# Altium schematic symbol library ResistorCapacitorInductor.SchLib: 15 symbols
Pins are listed as number, name and electrical type; pins without a type are passive.

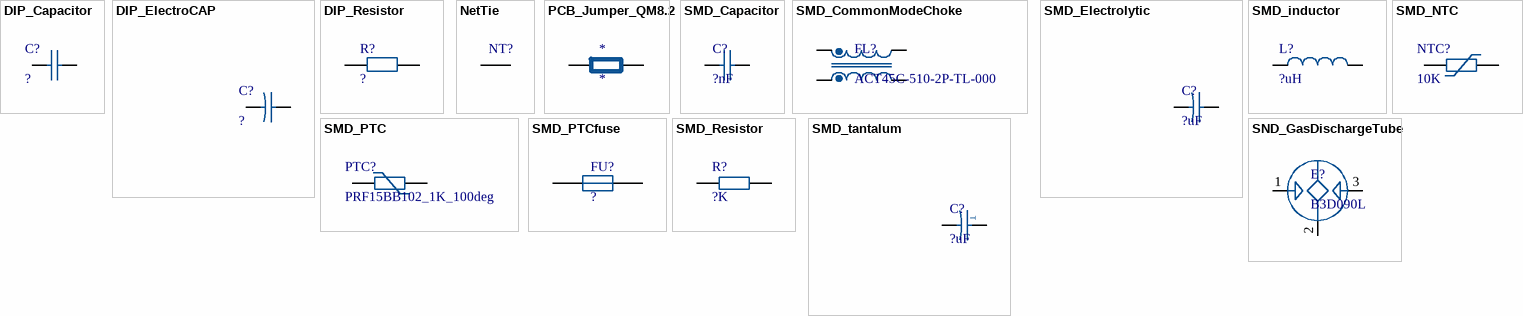
[diagram p0: symbols DIP_Capacitor to SND_GasDischargeTube]

## DIP_Capacitor
designator C?, comment ?
Type: ?
footprint RAD-0.2 (Radial Cap, Thru-Hole; 2 Leads; 0.2 in Pin Spacing)
pins: 1, 2

## DIP_ElectroCAP
designator C?, comment ?
Type: ?
footprint RAD-0.1 (Radial Cap, Thru-Hole; 2 Leads; 0.1 in Pin Spacing)
pins: 1, 2

## DIP_Resistor
designator R?, comment ?
Type: ?
footprint AXIAL-0.3 (Axial Device, Thru-Hole; 2 Leads; 0.3 in Pin Spacing)
footprint AXIAL-0.4 (Axial Device, Thru-Hole; 2 Leads; 0.4 in Pin Spacing)
footprint AXIAL-0.5 (Axial Device, Thru-Hole; 2 Leads; 0.5 in Pin Spacing)
footprint AXIAL-0.6 (Axial Device, Thru-Hole; 2 Leads; 0.6 in Pin Spacing)
pins: 1, 2

## NetTie
designator NT?  (net tie, no BOM)
footprint 1206NetTie
footprint 0603NETTIE (Chip Resistor, 2-Leads, Body 1.60x0.80mm, IPC Medium Density)
footprint 0402NETTIE
footprint Connector
pins: 1, 2

## PCB_Jumper_QM8.2
designator *
footprint PCB_Jumper (QM8.2)
pins: 1, 2

## SMD_Capacitor
designator C?, comment ?nF
Std MLCC Cap; voltage rating: ?V; Type: ?nF
footprint CAPC2012X06N__0805CAPUNPOLE (Chip Capacitor, 2-Leads, Body 2.00x1.23mm, IPC Medium Density)
footprint CAPC1608X08N__0603CAPUNPOLE (Chip Capacitor, 2-Leads, Body 1.60x0.80mm, IPC Medium Density)
footprint CAPC3216X16N_1206CAPUNPOLE (Chip Capacitor, 2-Leads, Body 3.20x1.60mm, IPC Medium Density)
footprint CAPC1005X06N__0402CAPUNPOLE (Chip Capacitor, 2-Leads, Body 1.00x0.50mm, IPC Medium Density)
pins: 1, 2

## SMD_CommonModeChoke
designator FL?, comment ACT45C-510-2P-TL-000
Std Common Mode Choke; inductence: 51uH; Type: ACT45C-510-2P-TL-000
footprint DFN380P450X280-4N__1812CMC (DFN, 4-Leads, Body 3.20x4.50mm, Pitch 3.80mm, IPC Medium Density)
pins: 1, 2, 3, 4

## SMD_Electrolytic
designator C?, comment ?uF
Std Electrolytic Cap; Type: ?uF
footprint CAPAE7266X59M__6.3x5.9 (Aluminum Electrolytic Capacitor, Body 6.60x6.60x5.90mm, IPC Low Density)
pins: 1, 2

## SMD_inductor
designator L?, comment ?uH
std inductance; value: ?uH
footprint RESC1608X04N_0603RES (Chip Resistor, 2-Leads, Body 1.60x0.80mm, IPC Medium Density)
footprint RESC6432X06N__2512RES (Chip Resistor, 2-Leads, Body 6.35x3.20mm, IPC Medium Density)
footprint RESC1005X06N__0402RES (Chip Resistor, 2-Leads, Body 1.00x0.50mm, IPC Medium Density)
footprint RESC2013X06N__0805RES (Chip Resistor, 2-Leads, Body 2.00x1.27mm, IPC Medium Density)
footprint RESC3116X06N__1206RES (Chip Resistor, 2-Leads, Body 3.10x1.58mm, IPC Medium Density)
pins: 1, 2

## SMD_NTC
designator NTC?, comment 10K
Std NTC; Type: 10K
footprint RESC2013X06N__0805RES (Chip Resistor, 2-Leads, Body 2.00x1.27mm, IPC Medium Density)
footprint RESC1608X04N_0603RES (Chip Resistor, 2-Leads, Body 1.60x0.80mm, IPC Medium Density)
pins: 1, 2

## SMD_PTC
designator PTC?, comment PRF15BB102_1K_100deg
Std PTC; Type: PRF15BB102_1K_100deg
footprint RESC1608X04N_0603RES (Chip Resistor, 2-Leads, Body 1.60x0.80mm, IPC Medium Density)
footprint RESC2013X06N__0805RES (Chip Resistor, 2-Leads, Body 2.00x1.27mm, IPC Medium Density)
pins: 1, 2

## SMD_PTCfuse
designator FU?, comment ?
Std SMD PTC fuse; Type: ?
footprint RESC6432X06N__2512RES (Chip Resistor, 2-Leads, Body 6.35x3.20mm, IPC Medium Density)
footprint RESC3116X06N__1206RES (Chip Resistor, 2-Leads, Body 3.10x1.58mm, IPC Medium Density)
footprint Littlefuse 461Series
pins: 1, 2

## SMD_Resistor
designator R?, comment ?K
Std Resistor; power rating: 100mW; voltage rating: 75V; Type: ?K
footprint RESC2013X06N__0805RES (Chip Resistor, 2-Leads, Body 2.00x1.27mm, IPC Medium Density)
footprint RESC6432X06N__2512RES (Chip Resistor, 2-Leads, Body 6.35x3.20mm, IPC Medium Density)
footprint RESC2013X06N__0805RES_NF (Chip Resistor, 2-Leads, Body 2.00x1.27mm, IPC Medium Density)
footprint RESC1608X04N_0603RES (Chip Resistor, 2-Leads, Body 1.60x0.80mm, IPC Medium Density)
footprint RESC3116X06N__1206RES (Chip Resistor, 2-Leads, Body 3.10x1.58mm, IPC Medium Density)
footprint RESC3126X06N__1210RES (Chip Resistor, 2-Leads, Body 3.10x2.60mm, IPC Medium Density)
footprint RESC1005X06N__0402RES (Chip Resistor, 2-Leads, Body 1.00x0.50mm, IPC Medium Density)
pins: 1, 2

## SMD_tantalum
designator C?, comment ?uF
Std Electrolytic Cap; Type: ?uF
footprint CASE-B_3528_TANT (Molded Capacitor, 2-Leads, Body 3.50x2.80mm, IPC Medium Density)
pins: 1, 2
text: T

## SND_GasDischargeTube
designator E?, comment B3D090L
std Gas discharge Tube; Type: B3D090L
footprint GDT_SMD_5x7.6mm
pins: 1, 2, 3